# Altium footprint library CommonPcb.PcbLib: 194 footprints (part 10 of 13)
Each footprint in its own frame and in the unit in brackets; x right, y up, seen from the top. Pads: shape width x height; smd on the part's side, far side on the other; paste and mask are expansions set on the pad; w line width, h text height; cw(c..) or ccw(c..) is an arc to the next point about the centre after c.
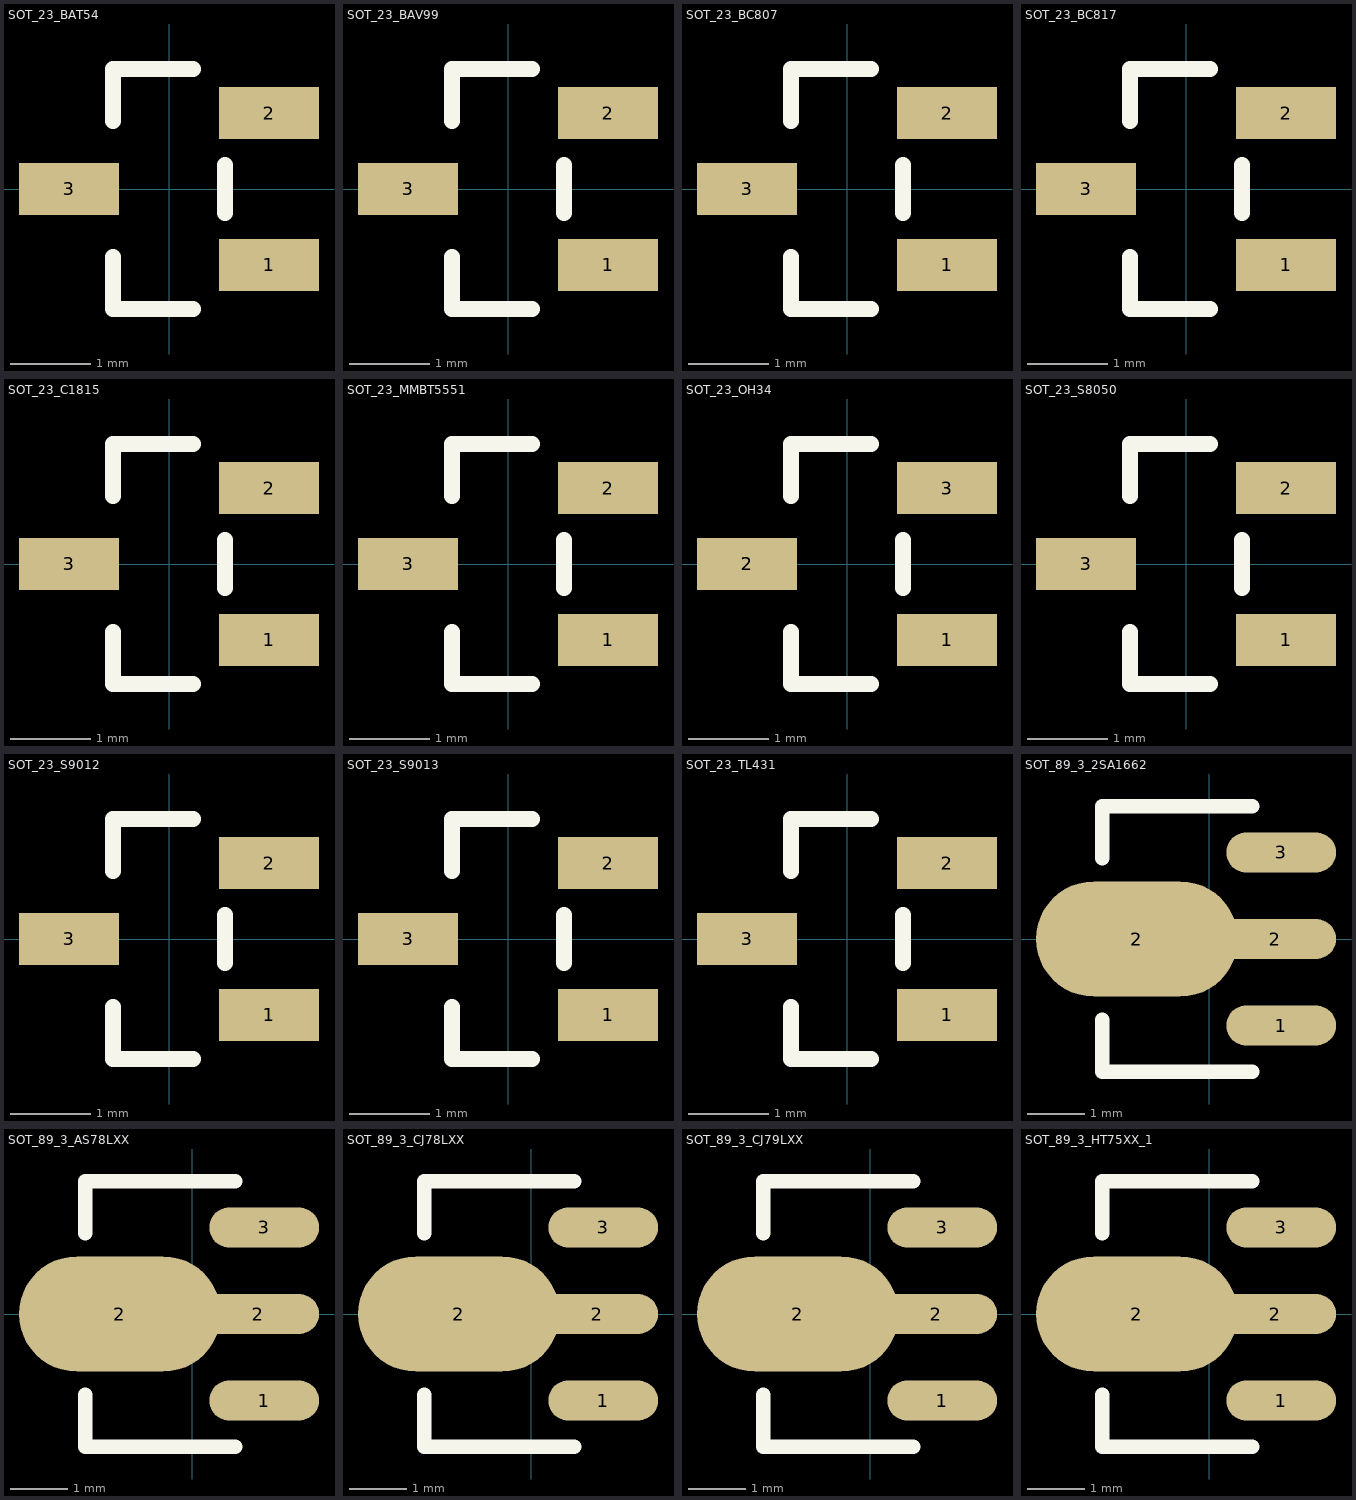
[diagram p9: the footprints below, top view; thin cyan lines are the x and y axes]

## SOT_23_BAT54 [mm] "SOT_23"
pads (3):
  rect 1.25x0.65 smd mask+0.1: 1(1.25,-0.95) 2(1.25,0.95) 3(-1.25,0)
Top Overlay:
  lines w0.2: -0.7,-0.85 -0.7,-1.5 0.3,-1.5 ; -0.7,0.85 -0.7,1.5 0.3,1.5 ; 0.7,-0.3 0.7,0.3
3D body: height 0, standoff 0, extent -2,-1.5 2,1.501

## SOT_23_BAV99 [mm] "SOT_23"
pads (3):
  rect 1.25x0.65 smd mask+0.1: 1(1.25,-0.95) 2(1.25,0.95) 3(-1.25,0)
Top Overlay:
  lines w0.2: -0.7,-0.85 -0.7,-1.5 0.3,-1.5 ; -0.7,0.85 -0.7,1.5 0.3,1.5 ; 0.7,-0.3 0.7,0.3
3D body: height 0, standoff 0, extent -2,-1.5 2,1.501

## SOT_23_BC807 [mm] "SOT_23"
pads (3):
  rect 1.25x0.65 smd mask+0.1: 1(1.25,-0.95) 2(1.25,0.95) 3(-1.25,0)
Top Overlay:
  lines w0.2: -0.7,-0.85 -0.7,-1.5 0.3,-1.5 ; -0.7,0.85 -0.7,1.5 0.3,1.5 ; 0.7,-0.3 0.7,0.3
3D body: height 0, standoff 0, extent -2,-1.5 2,1.501

## SOT_23_BC817 [mm] "SOT_23"
pads (3):
  rect 1.25x0.65 smd mask+0.1: 1(1.25,-0.95) 2(1.25,0.95) 3(-1.25,0)
Top Overlay:
  lines w0.2: -0.7,-0.85 -0.7,-1.5 0.3,-1.5 ; -0.7,0.85 -0.7,1.5 0.3,1.5 ; 0.7,-0.3 0.7,0.3
3D body: height 0, standoff 0, extent -2,-1.5 2,1.501

## SOT_23_C1815 [mm] "SOT_23"
pads (3):
  rect 1.25x0.65 smd mask+0.1: 1(1.25,-0.95) 2(1.25,0.95) 3(-1.25,0)
Top Overlay:
  lines w0.2: -0.7,-0.85 -0.7,-1.5 0.3,-1.5 ; -0.7,0.85 -0.7,1.5 0.3,1.5 ; 0.7,-0.3 0.7,0.3
3D body: height 0, standoff 0, extent -2,-1.5 2,1.501

## SOT_23_MMBT5551 [mm] "SOT_23"
pads (3):
  rect 1.25x0.65 smd mask+0.1: 1(1.25,-0.95) 2(1.25,0.95) 3(-1.25,0)
Top Overlay:
  lines w0.2: -0.7,-0.85 -0.7,-1.5 0.3,-1.5 ; -0.7,0.85 -0.7,1.5 0.3,1.5 ; 0.7,-0.3 0.7,0.3
3D body: height 0, standoff 0, extent -2,-1.5 2,1.501

## SOT_23_OH34 [mm] "SOT_23"
pads (3):
  rect 1.25x0.65 smd mask+0.1: 1(1.25,-0.95) 2(-1.25,0) 3(1.25,0.95)
Top Overlay:
  lines w0.2: -0.7,-0.85 -0.7,-1.5 0.3,-1.5 ; -0.7,0.85 -0.7,1.5 0.3,1.5 ; 0.7,-0.3 0.7,0.3
3D body: height 0, standoff 0, extent -2,-1.5 2,1.501

## SOT_23_S8050 [mm] "SOT_23"
pads (3):
  rect 1.25x0.65 smd mask+0.1: 1(1.25,-0.95) 2(1.25,0.95) 3(-1.25,0)
Top Overlay:
  lines w0.2: -0.7,-0.85 -0.7,-1.5 0.3,-1.5 ; -0.7,0.85 -0.7,1.5 0.3,1.5 ; 0.7,-0.3 0.7,0.3
3D body: height 0, standoff 0, extent -2,-1.5 2,1.501

## SOT_23_S9012 [mm] "SOT_23"
pads (3):
  rect 1.25x0.65 smd mask+0.1: 1(1.25,-0.95) 2(1.25,0.95) 3(-1.25,0)
Top Overlay:
  lines w0.2: -0.7,-0.85 -0.7,-1.5 0.3,-1.5 ; -0.7,0.85 -0.7,1.5 0.3,1.5 ; 0.7,-0.3 0.7,0.3
3D body: height 0, standoff 0, extent -2,-1.5 2,1.501

## SOT_23_S9013 [mm] "SOT_23"
pads (3):
  rect 1.25x0.65 smd mask+0.1: 1(1.25,-0.95) 2(1.25,0.95) 3(-1.25,0)
Top Overlay:
  lines w0.2: -0.7,-0.85 -0.7,-1.5 0.3,-1.5 ; -0.7,0.85 -0.7,1.5 0.3,1.5 ; 0.7,-0.3 0.7,0.3
3D body: height 0, standoff 0, extent -2,-1.5 2,1.501

## SOT_23_TL431 [mm] "SOT_23"
pads (3):
  rect 1.25x0.65 smd mask+0.1: 1(1.25,-0.95) 2(1.25,0.95) 3(-1.25,0)
Top Overlay:
  lines w0.2: -0.7,-0.85 -0.7,-1.5 0.3,-1.5 ; -0.7,0.85 -0.7,1.5 0.3,1.5 ; 0.7,-0.3 0.7,0.3
3D body: height 0, standoff 0, extent -2,-1.5 2,1.501

## SOT_89_3_2SA1662 [mm] "SOT_89_3"
pads (4):
  oval 1.9x0.7 smd mask+0.1: 1(1.25,-1.5) 3(1.25,1.5)
  oval 3.5x2 smd mask+0.1: 2(-1.25,0)
  oval 2.1x0.7 smd mask+0.1: 2(1.15,0)
Top Overlay:
  lines w0.254: -1.85,-1.4 -1.85,-2.3 0.75,-2.3 ; -1.85,1.4 -1.85,2.3 0.75,2.3
3D body: height 0, standoff 0, extent -3.225,-2.3 2.525,2.325

## SOT_89_3_AS78LXX [mm] "SOT_89_3"
pads (4):
  oval 1.9x0.7 smd mask+0.1: 1(1.25,-1.5) 3(1.25,1.5)
  oval 3.5x2 smd mask+0.1: 2(-1.25,0)
  oval 2.1x0.7 smd mask+0.1: 2(1.15,0)
Top Overlay:
  lines w0.254: -1.85,-1.4 -1.85,-2.3 0.75,-2.3 ; -1.85,1.4 -1.85,2.3 0.75,2.3
3D body: height 0, standoff 0, extent -3.225,-2.3 2.525,2.325

## SOT_89_3_CJ78LXX [mm] "SOT_89_3"
pads (4):
  oval 1.9x0.7 smd mask+0.1: 1(1.25,-1.5) 3(1.25,1.5)
  oval 3.5x2 smd mask+0.1: 2(-1.25,0)
  oval 2.1x0.7 smd mask+0.1: 2(1.15,0)
Top Overlay:
  lines w0.254: -1.85,-1.4 -1.85,-2.3 0.75,-2.3 ; -1.85,1.4 -1.85,2.3 0.75,2.3
3D body: height 0, standoff 0, extent -3.225,-2.3 2.525,2.325

## SOT_89_3_CJ79LXX [mm] "SOT_89_3"
pads (4):
  oval 1.9x0.7 smd mask+0.1: 1(1.25,-1.5) 3(1.25,1.5)
  oval 3.5x2 smd mask+0.1: 2(-1.25,0)
  oval 2.1x0.7 smd mask+0.1: 2(1.15,0)
Top Overlay:
  lines w0.254: -1.85,-1.4 -1.85,-2.3 0.75,-2.3 ; -1.85,1.4 -1.85,2.3 0.75,2.3
3D body: height 0, standoff 0, extent -3.225,-2.3 2.525,2.325

## SOT_89_3_HT75XX_1 [mm] "SOT_89_3"
pads (4):
  oval 1.9x0.7 smd mask+0.1: 1(1.25,-1.5) 3(1.25,1.5)
  oval 3.5x2 smd mask+0.1: 2(-1.25,0)
  oval 2.1x0.7 smd mask+0.1: 2(1.15,0)
Top Overlay:
  lines w0.254: -1.85,-1.4 -1.85,-2.3 0.75,-2.3 ; -1.85,1.4 -1.85,2.3 0.75,2.3
3D body: height 0, standoff 0, extent -3.225,-2.3 2.525,2.325